# EAGLE library part DS90CR217MTD/NOPB (library U-TI-DS90CR217-LVDSTransmitter)
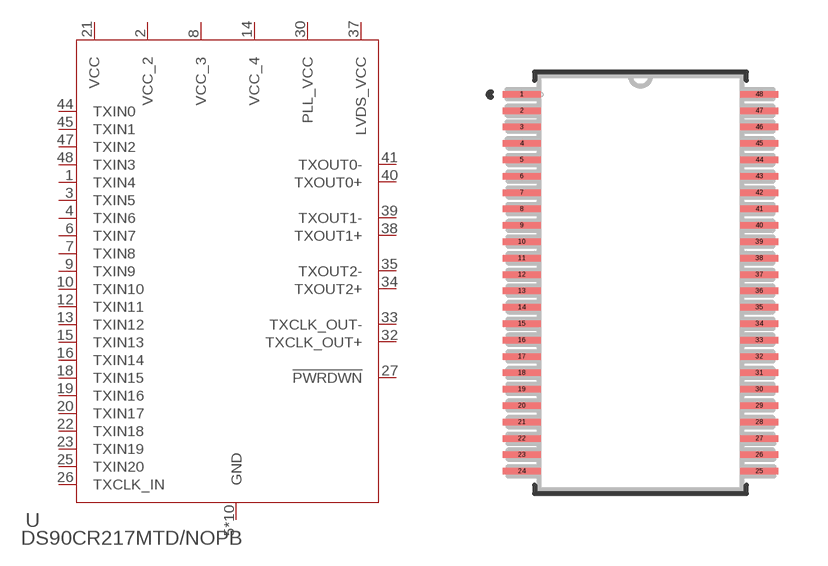
[diagram p0: symbol with the pads of MTD48_TEX-L; footprint MTD48_TEX-L]

Designator prefix U

## DS90CR217MTD/NOPBMTD48_TEX-L (DIS: Digi-Key; DPN: DS90CR218AMTD/NOPB-ND; MFR: Texas Instruments; MPN: DS90CR218AMTD/NOPB)  [MTD48_TEX-L]
1  TXIN4  in
2  VCC_2  pwr
3  TXIN5  in
4  TXIN6  in
5  GND  pwr
6  TXIN7  in
7  TXIN8  in
8  VCC_3  pwr
9  TXIN9  in
10  TXIN10  in
11  GND  pwr
12  TXIN11  in
13  TXIN12  in
14  VCC_4  pwr
15  TXIN13  in
16  TXIN14  in
17  GND  pwr
18  TXIN15  in
19  TXIN16  in
20  TXIN17  in
21  VCC  pwr
22  TXIN18  in
23  TXIN19  in
24  GND  pwr
25  TXIN20  in
26  TXCLK_IN  pas
27  !PWRDWN  pas
28  GND  pwr
29  GND  pwr
30  PLL_VCC  pwr
31  GND  pwr
32  TXCLK_OUT+  out
33  TXCLK_OUT-  out
34  TXOUT2+  out
35  TXOUT2-  out
36  GND  pwr
37  LVDS_VCC  pas
38  TXOUT1+  out
39  TXOUT1-  out
40  TXOUT0+  out
41  TXOUT0-  out
42  GND  pwr
44  TXIN0  in
45  TXIN1  in
46  GND  pwr
47  TXIN2  in
48  TXIN3  in

## Footprint MTD48_TEX-L (pad centres in mm)
smd 1.162 x 0.199: 1 -3.62,5.75; 2 -3.62,5.25; 3 -3.62,4.75; 4 -3.62,4.25; 5 -3.62,3.75; 6 -3.62,3.25; 7 -3.62,2.75; 8 -3.62,2.25; 9 -3.62,1.75; 10 -3.62,1.25; 11 -3.62,0.75; 12 -3.62,0.25; 13 -3.62,-0.25; 14 -3.62,-0.75; 15 -3.62,-1.25; 16 -3.62,-1.75; 17 -3.62,-2.25; 18 -3.62,-2.75; 19 -3.62,-3.25; 20 -3.62,-3.75; 21 -3.62,-4.25; 22 -3.62,-4.75; 23 -3.62,-5.25; 24 -3.62,-5.75; 25 3.62,-5.75; 26 3.62,-5.25; 27 3.62,-4.75; 28 3.62,-4.25; 29 3.62,-3.75; 30 3.62,-3.25; 31 3.62,-2.75; 32 3.62,-2.25; 33 3.62,-1.75; 34 3.62,-1.25; 35 3.62,-0.75; 36 3.62,-0.25; 37 3.62,0.25; 38 3.62,0.75; 39 3.62,1.25; 40 3.62,1.75; 41 3.62,2.25; 42 3.62,2.75; 43 3.62,3.25; 44 3.62,3.75; 45 3.62,4.25; 46 3.62,4.75; 47 3.62,5.25; 48 3.62,5.75